# Altium footprint library Gates and Inverters.PcbLib: 1 footprints
Each footprint in its own frame and in the unit in brackets; x right, y up, seen from the top. Pads: shape width x height; smd on the part's side, far side on the other; paste and mask are expansions set on the pad; w line width, h text height; cw(c..) or ccw(c..) is an arc to the next point about the centre after c.
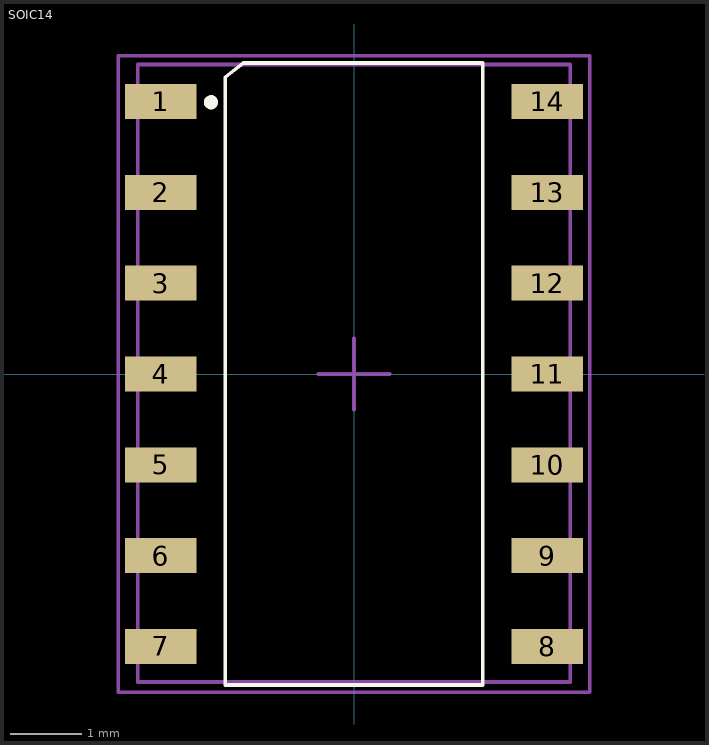
[diagram p0: the footprint, top view; thin cyan lines are the x and y axes]

## SOIC14 [mm]
pads (14):
  rect 1x0.49 smd mask+0.05: 1(-2.7,3.81) 2(-2.7,2.54) 3(-2.7,1.27) 4(-2.7,0) 5(-2.7,-1.27) 6(-2.7,-2.54) 7(-2.7,-3.81) 8(2.7,-3.81) 9(2.7,-2.54) 10(2.7,-1.27) 11(2.7,0) 12(2.7,1.27) 13(2.7,2.54) 14(2.7,3.81)
Top Overlay:
  circle w0.1: c-2,3.8 r0.05
  lines w0.05: -1.8,-4.35 -1.8,4.15 -1.55,4.35 1.8,4.35 1.8,-4.35 -1.8,-4.35
Top 3D Body:
  lines w0.05: -3.023,-4.308 -3.023,4.328 3.023,4.328 3.023,-4.308 -3.023,-4.308
Top Component Center:
  lines w0.05: -0.5,0 0.5,0 ; 0,-0.5 0,0.5 ; -3.3,-4.45 3.3,-4.45 3.3,4.45 -3.3,4.45 -3.3,-4.45
Top Designator:
  lines w0.05: -3.3,-4.45 -3.3,4.45 3.3,4.45 3.3,-4.45 -3.3,-4.45
3D body "soic-14.stp": height 1.62, standoff 0.02, extent -3.022,-4.308 3.023,4.328